# EAGLE library part MMDT3904-7-F (library MMDT3904-7-F)
Diodes Inc MMDT3904-7-F Dual NPN Bipolar Transistor, 200 mA, 40 V, 6-Pin SOT-363 Source: Datasheet <https://www.diodes.com//assets/Datasheets/ds30088.pdf>
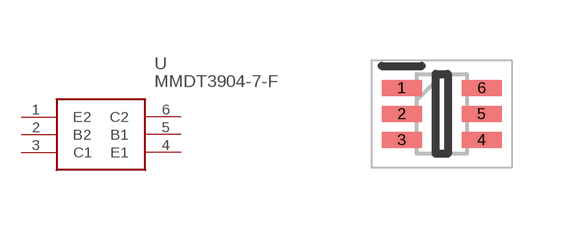
[diagram p0: symbol with the pads of SOT65P210X110-6N; footprint SOT65P210X110-6N]

Designator prefix U

## MMDT3904-7-F (Description: Diodes Inc MMDT3904-7-F Dual NPN Bipolar Transistor, 200 mA, 40 V, 6-Pin SOT-363; Height: 1.1mm; Manufacturer_Name: Diodes Incorporated; Manufacturer_Part_Number: MMDT3904-7-F; Mouser_Part_Number: 621-MMDT3904-F; Mouser_Price-Stock: https://www.mouser.co.uk/ProductDetail/Diodes-Incorporated/MMDT3904-7-F?qs=57mY3cMFOgk2hRxwFAQcAA%3D%3D)  [SOT65P210X110-6N]
1  E2
2  B2
3  C1
4  E1
5  B1
6  C2

## Footprint SOT65P210X110-6N (pad centres in mm)
MMDT3904-7-F
smd 1 x 0.4: 1 -1,0.65; 2 -1,0; 3 -1,-0.65; 4 1,-0.65; 5 1,0; 6 1,0.65